# Altium schematic symbol library pancon.SchLib: 2 symbols
Pins are listed as number, name and electrical type; pins without a type are passive.

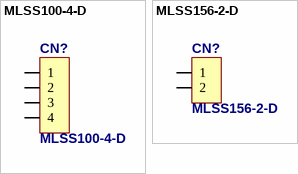
[diagram p0: symbols MLSS100-4-D to MLSS156-2-D]

## MLSS100-4-D
designator CN?
MAS-CON , .100'' LOCKING HEADER WITH STRAIGHT PINS
footprint MLSS100-4-D
pins: 1, 2, 3, 4

## MLSS156-2-D
designator CN?
MAS-CON , .156'' LOCKING HEADER WITH STRAIGHT PINS
footprint MLSS156-2-D
pins: 1, 2